# Altium footprint library SH1.0.PcbLib: 12 footprints
Each footprint in its own frame and in the unit in brackets; x right, y up, seen from the top. Pads: shape width x height; smd on the part's side, far side on the other; paste and mask are expansions set on the pad; w line width, h text height; cw(c..) or ccw(c..) is an arc to the next point about the centre after c.
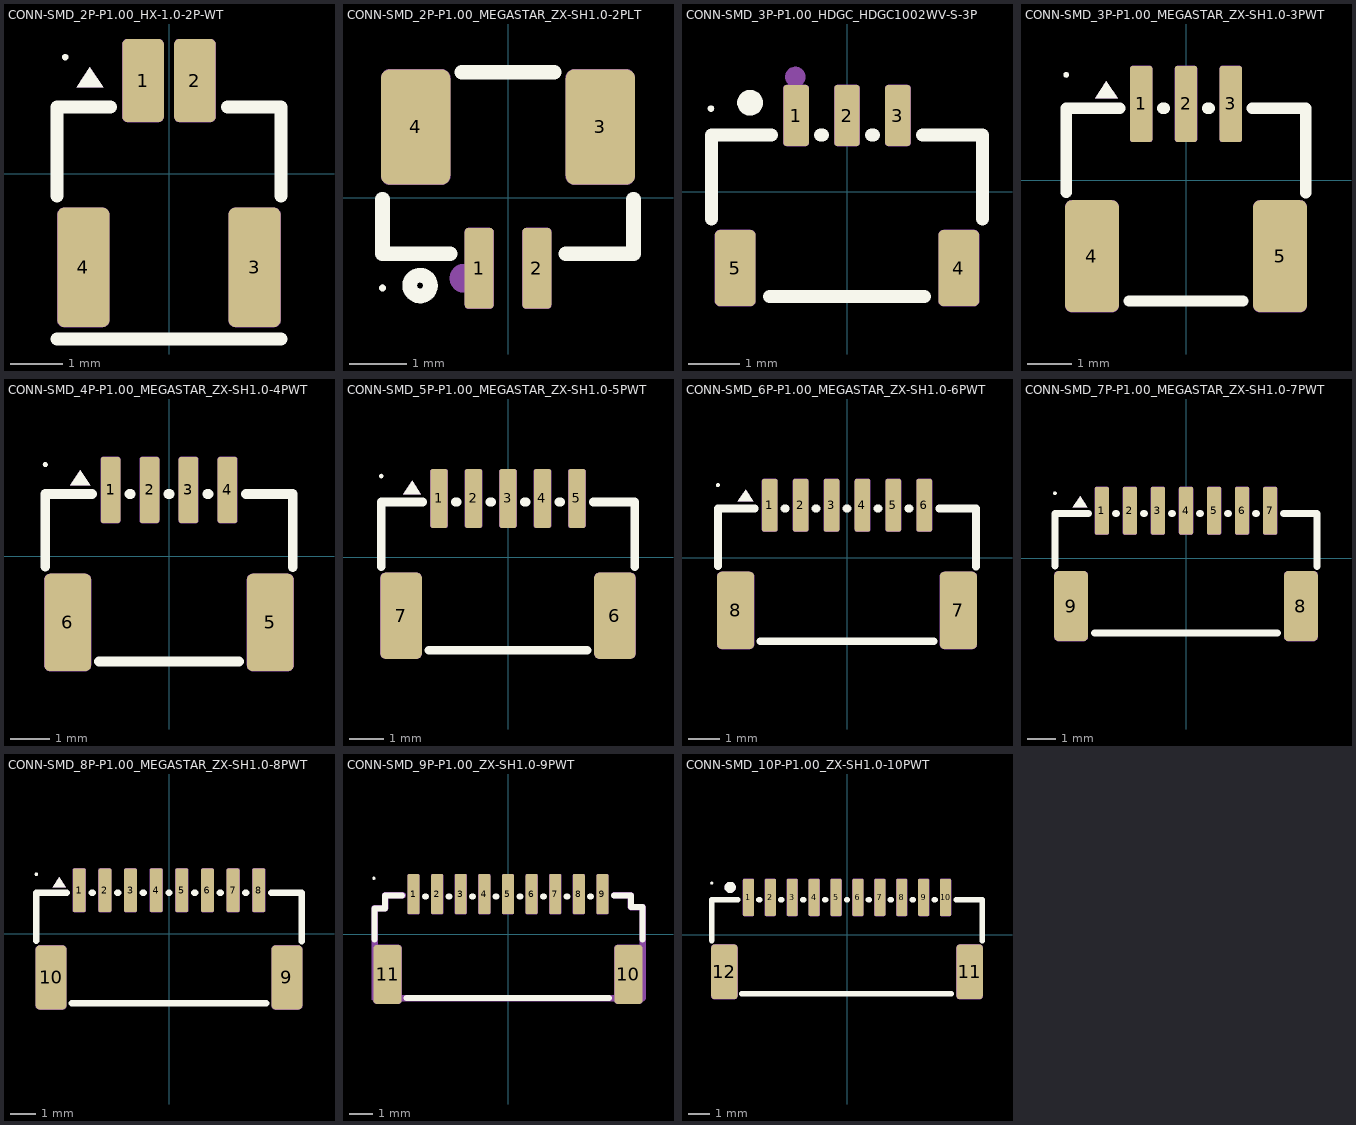
[diagram p0: the footprints below, top view; thin cyan lines are the x and y axes]

## CONN-SMD_2P-P1.00_HX-1.0-2P-WT [mm] "SMD,P=1mm; SMD,P=1mm,&#21351;&#36148;"
height -909.212
pads (4):
  rrect25% 0.8x1.6 smd mask+0.05: 1(-0.5,1.8) 2(0.5,1.8)
  rrect25% 1x2.3 smd mask+0.05: 3(1.65,-1.8) 4(-1.65,-1.8)
Top Overlay:
  region: -1.524,2.054 -1.778,1.673 -1.27,1.673
  region: -1.94,2.25 -1.941,2.262 -1.945,2.273 -1.95,2.283 -1.958,2.292 -1.967,2.3 -1.977,2.305 -1.988,2.309 -2,2.31 -2.012,2.309 -2.023,2.305 -2.033,2.3 -2.043,2.292 -2.05,2.283 -2.056,2.273 -2.059,2.262 -2.06,2.25 -2.059,2.238 -2.056,2.227 -2.05,2.217 -2.043,2.208 -2.033,2.2 -2.023,2.195 -2.012,2.191 -2,2.19 -1.988,2.191 -1.977,2.195 -1.967,2.2 -1.958,2.208 -1.95,2.217 -1.945,2.227 -1.941,2.238
  lines w0.254: -2.159,-3.181 2.159,-3.181 ; -2.159,-0.419 -2.159,1.292 -1.131,1.292 ; 1.131,1.292 2.159,1.292 2.159,-0.419
Mechanical 2:
  region: -1.524,2.054 -1.778,1.673 -1.27,1.673
Mechanical 9:
  drawing of 4 lines, arcs and shapes, not listed
3D body "CONN-SMD_2P-P1.00_HX-1.0-2P-WT.step": height 1, standoff 0, extent -2,-2.96 2,1.34

## CONN-SMD_2P-P1.00_MEGASTAR_ZX-SH1.0-2PLT [mm] "SMD,P=1mm"
height -909.212
pads (4):
  rrect25% 0.5x1.4 smd mask+0.05: 1(-0.5,-1.225) 2(0.5,-1.225)
  rrect25% 1.2x2 smd mask+0.05: 3(1.6,1.225) 4(-1.6,1.225)
Top Overlay:
  circle w0.254: c-1.524,-1.524 r0.18
  region: -2.115,-1.565 -2.116,-1.553 -2.12,-1.542 -2.125,-1.532 -2.133,-1.523 -2.142,-1.515 -2.152,-1.51 -2.163,-1.506 -2.175,-1.505 -2.187,-1.506 -2.198,-1.51 -2.208,-1.515 -2.217,-1.523 -2.225,-1.532 -2.23,-1.542 -2.234,-1.553 -2.235,-1.565 -2.234,-1.577 -2.23,-1.588 -2.225,-1.598 -2.217,-1.608 -2.208,-1.615 -2.198,-1.621 -2.187,-1.624 -2.175,-1.625 -2.163,-1.624 -2.152,-1.621 -2.142,-1.615 -2.133,-1.608 -2.125,-1.598 -2.12,-1.588 -2.116,-1.577
  lines w0.254: -2.175,-0.025 -2.175,-0.975 -1,-0.975 ; -0.8,2.175 0.8,2.175 ; 1,-0.975 2.175,-0.975 2.175,-0.025
Mechanical 2:
  circle w0.25: c-0.762,-1.397 r0.125
Mechanical 9:
  drawing of 4 lines, arcs and shapes, not listed
3D body "CONN-SMD_2P-P1.00_MEGASTAR_ZX-SH1.0-2PLT.step": height 1, standoff 0, extent -2.175,-0.875 2.175,2.175

## CONN-SMD_3P-P1.00_HDGC_HDGC1002WV-S-3P [mm] "SMD,P=1mm"
height -909.212
pads (5):
  rrect25% 0.5x1.2 smd mask+0.05: 1(-1,1.5) 2(0,1.5) 3(1,1.5)
  rrect25% 0.8x1.5 smd mask+0.05: 4(2.2,-1.5) 5(-2.2,-1.5)
Top Overlay:
  circle w0.254: c-1.905,1.751 r0.127
  region: -2.615,1.636 -2.616,1.648 -2.619,1.659 -2.625,1.669 -2.632,1.678 -2.642,1.686 -2.652,1.691 -2.663,1.695 -2.675,1.696 -2.687,1.695 -2.698,1.691 -2.708,1.686 -2.717,1.678 -2.725,1.669 -2.73,1.659 -2.734,1.648 -2.735,1.636 -2.734,1.624 -2.73,1.613 -2.725,1.603 -2.717,1.594 -2.708,1.586 -2.698,1.581 -2.687,1.577 -2.675,1.576 -2.663,1.577 -2.652,1.581 -2.642,1.586 -2.632,1.594 -2.625,1.603 -2.619,1.613 -2.616,1.624
  lines w0.254: -2.667,-0.535 -2.667,1.116 -1.481,1.116 ; -1.524,-2.059 1.524,-2.059 ; -0.519,1.116 -0.481,1.116 ; 0.481,1.116 0.519,1.116 ; 1.481,1.116 2.667,1.116 2.667,-0.535
Mechanical 2:
  circle w0.2: c-1.016,2.259 r0.1
Mechanical 9:
  drawing of 5 lines, arcs and shapes, not listed
3D body "CONN-SMD_3P-P1.00_HDGC_HDGC1002WV-S-3P.step": height 1, standoff 0, extent -2.675,-2.064 2.675,1.136

## CONN-SMD_3P-P1.00_MEGASTAR_ZX-SH1.0-3PWT [mm] "SMD,P=1mm"
height -909.212
pads (5):
  rrect25% 0.5x1.7 smd mask+0.05: 1(-1,1.7) 2(0,1.7) 3(1,1.7)
  rrect25% 1.2x2.5 smd mask+0.05: 4(-2.1,-1.7) 5(2.1,-1.7)
Top Overlay:
  region: -2.615,2.35 -2.616,2.362 -2.62,2.373 -2.625,2.383 -2.633,2.392 -2.642,2.4 -2.652,2.405 -2.663,2.409 -2.675,2.41 -2.687,2.409 -2.698,2.405 -2.708,2.4 -2.717,2.392 -2.725,2.383 -2.73,2.373 -2.734,2.362 -2.735,2.35 -2.734,2.338 -2.73,2.327 -2.725,2.317 -2.717,2.308 -2.708,2.3 -2.698,2.295 -2.687,2.291 -2.675,2.29 -2.663,2.291 -2.652,2.295 -2.642,2.3 -2.633,2.308 -2.625,2.317 -2.62,2.327 -2.616,2.338
  region: -1.778,2.208 -2.032,1.827 -1.524,1.827
  lines w0.254: -2.675,-0.269 -2.675,1.6 -1.481,1.6 ; -1.269,-2.7 1.269,-2.7 ; -0.519,1.6 -0.481,1.6 ; 0.481,1.6 0.519,1.6 ; 1.481,1.6 2.675,1.6 ; 2.675,-0.282 2.675,1.573
Mechanical 2:
  region: -1.778,2.208 -2.032,1.827 -1.524,1.827
Mechanical 9:
  drawing of 5 lines, arcs and shapes, not listed
3D body "CONN-SMD_3P-P1.00_MEGASTAR_ZX-SH1.0-3PWT.step": height 1, standoff 0, extent -2.675,-2.7 2.675,1.6

## CONN-SMD_4P-P1.00_MEGASTAR_ZX-SH1.0-4PWT [mm] "SMD,P=1mm"
height -909.212
pads (6):
  rrect25% 0.5x1.7 smd mask+0.05: 1(-1.5,1.7) 2(-0.5,1.7) 3(0.5,1.7) 4(1.5,1.7)
  rrect25% 1.2x2.5 smd mask+0.05: 5(2.6,-1.7) 6(-2.6,-1.7)
Top Overlay:
  region: -2.278,2.208 -2.532,1.827 -2.024,1.827
  region: -3.115,2.35 -3.116,2.362 -3.119,2.373 -3.125,2.383 -3.133,2.392 -3.142,2.4 -3.152,2.405 -3.163,2.409 -3.175,2.41 -3.187,2.409 -3.198,2.405 -3.208,2.4 -3.217,2.392 -3.225,2.383 -3.23,2.373 -3.234,2.362 -3.235,2.35 -3.234,2.338 -3.23,2.327 -3.225,2.317 -3.217,2.308 -3.208,2.3 -3.198,2.295 -3.187,2.291 -3.175,2.29 -3.163,2.291 -3.152,2.295 -3.142,2.3 -3.133,2.308 -3.125,2.317 -3.119,2.327 -3.116,2.338
  lines w0.254: -3.175,-0.269 -3.175,1.6 -1.981,1.6 ; -1.8,-2.7 1.8,-2.7 ; -1.019,1.6 -0.981,1.6 ; -0.019,1.6 0.019,1.6 ; 0.981,1.6 1.019,1.6 ; 1.981,1.6 3.175,1.6 ; 3.175,-0.282 3.175,1.573
Mechanical 2:
  region: -2.278,2.208 -2.532,1.827 -2.024,1.827
Mechanical 9:
  drawing of 6 lines, arcs and shapes, not listed
3D body "CONN-SMD_4P-P1.00_MEGASTAR_ZX-SH1.0-4PWT.step": height 1, standoff 0, extent -3.175,-2.7 3.175,1.6

## CONN-SMD_5P-P1.00_MEGASTAR_ZX-SH1.0-5PWT [mm] "SMD,P=1mm"
height -909.212
pads (7):
  rrect25% 0.5x1.7 smd mask+0.05: 1(-2,1.7) 2(-1,1.7) 3(0,1.7) 4(1,1.7) 5(2,1.7)
  rrect25% 1.2x2.5 smd mask+0.05: 6(3.1,-1.7) 7(-3.1,-1.7)
Top Overlay:
  region: -2.778,2.208 -3.032,1.827 -2.524,1.827
  region: -3.615,2.35 -3.616,2.362 -3.62,2.373 -3.625,2.383 -3.633,2.392 -3.642,2.4 -3.652,2.405 -3.663,2.409 -3.675,2.41 -3.687,2.409 -3.698,2.405 -3.708,2.4 -3.717,2.392 -3.725,2.383 -3.73,2.373 -3.734,2.362 -3.735,2.35 -3.734,2.338 -3.73,2.327 -3.725,2.317 -3.717,2.308 -3.708,2.3 -3.698,2.295 -3.687,2.291 -3.675,2.29 -3.663,2.291 -3.652,2.295 -3.642,2.3 -3.633,2.308 -3.625,2.317 -3.62,2.327 -3.616,2.338
  lines w0.254: -3.675,-0.269 -3.675,1.6 -2.481,1.6 ; -2.3,-2.7 2.3,-2.7 ; -1.519,1.6 -1.481,1.6 ; -0.519,1.6 -0.481,1.6 ; 0.481,1.6 0.519,1.6 ; 1.481,1.6 1.519,1.6 ; 2.481,1.6 3.675,1.6 ; 3.675,-0.282 3.675,1.573
Mechanical 2:
  region: -2.778,2.208 -3.032,1.827 -2.524,1.827
Mechanical 9:
  drawing of 7 lines, arcs and shapes, not listed
3D body "CONN-SMD_5P-P1.00_MEGASTAR_ZX-SH1.0-5PWT.step": height 1, standoff 0, extent -3.675,-2.7 3.675,1.6

## CONN-SMD_6P-P1.00_MEGASTAR_ZX-SH1.0-6PWT [mm] "SMD,P=1mm"
height -909.212
pads (8):
  rrect25% 0.5x1.7 smd mask+0.05: 1(-2.5,1.7) 2(-1.5,1.7) 3(-0.5,1.7) 4(0.5,1.7) 5(1.5,1.7) 6(2.5,1.7)
  rrect25% 1.2x2.5 smd mask+0.05: 7(3.6,-1.7) 8(-3.6,-1.7)
Top Overlay:
  region: -3.278,2.208 -3.532,1.827 -3.024,1.827
  region: -4.115,2.35 -4.116,2.362 -4.119,2.373 -4.125,2.383 -4.132,2.392 -4.142,2.4 -4.152,2.405 -4.163,2.409 -4.175,2.41 -4.187,2.409 -4.198,2.405 -4.208,2.4 -4.217,2.392 -4.225,2.383 -4.23,2.373 -4.234,2.362 -4.235,2.35 -4.234,2.338 -4.23,2.327 -4.225,2.317 -4.217,2.308 -4.208,2.3 -4.198,2.295 -4.187,2.291 -4.175,2.29 -4.163,2.291 -4.152,2.295 -4.142,2.3 -4.132,2.308 -4.125,2.317 -4.119,2.327 -4.116,2.338
  lines w0.254: -4.175,-0.269 -4.175,1.6 -2.981,1.6 ; -2.8,-2.7 2.8,-2.7 ; -2.019,1.6 -1.981,1.6 ; -1.019,1.6 -0.981,1.6 ; -0.019,1.6 0.019,1.6 ; 0.981,1.6 1.019,1.6 ; 1.981,1.6 2.019,1.6 ; 2.981,1.6 4.175,1.6 ; 4.175,-0.282 4.175,1.573
Mechanical 2:
  region: -3.278,2.208 -3.532,1.827 -3.024,1.827
Mechanical 9:
  drawing of 8 lines, arcs and shapes, not listed
3D body "CONN-SMD_6P-P1.00_MEGASTAR_ZX-SH1.0-6PWT.step": height 1, standoff 0, extent -4.175,-2.7 4.175,1.6

## CONN-SMD_7P-P1.00_MEGASTAR_ZX-SH1.0-7PWT [mm] "CONN-SMD_7P-P1.00_MEGASTAR_ZX-SH1.0-7PWT"
height -909.212
pads (9):
  rrect25% 0.5x1.7 smd mask+0.05: 1(-3,1.7) 2(-2,1.7) 3(-1,1.7) 4(0,1.7) 5(1,1.7) 6(2,1.7) 7(3,1.7)
  rrect25% 1.2x2.5 smd mask+0.05: 8(4.1,-1.7) 9(-4.1,-1.7)
Top Overlay:
  region: -4.615,2.325 -4.616,2.337 -4.62,2.348 -4.625,2.358 -4.633,2.368 -4.642,2.375 -4.652,2.381 -4.663,2.384 -4.675,2.385 -4.687,2.384 -4.698,2.381 -4.708,2.375 -4.718,2.368 -4.725,2.358 -4.731,2.348 -4.734,2.337 -4.735,2.325 -4.734,2.313 -4.731,2.302 -4.725,2.292 -4.718,2.283 -4.708,2.275 -4.698,2.27 -4.687,2.266 -4.675,2.265 -4.663,2.266 -4.652,2.27 -4.642,2.275 -4.633,2.283 -4.625,2.292 -4.62,2.302 -4.616,2.313
  region: -3.778,2.208 -4.032,1.827 -3.524,1.827
  lines w0.254: -4.675,-0.269 -4.675,1.6 -3.481,1.6 ; -3.269,-2.667 3.269,-2.667 ; -2.519,1.6 -2.481,1.6 ; -1.519,1.6 -1.481,1.6 ; -0.519,1.6 -0.481,1.6 ; 0.481,1.6 0.519,1.6 ; 1.481,1.6 1.519,1.6 ; 2.481,1.6 2.519,1.6 ; 3.481,1.6 4.675,1.6 ; 4.675,-0.281 4.675,1.573
Mechanical 2:
  region: -3.778,2.208 -4.032,1.827 -3.524,1.827
Mechanical 9:
  drawing of 9 lines, arcs and shapes, not listed
3D body "CONN-SMD_7P-P1.00_MEGASTAR_ZX-SH1.0-7PWT.step": height 1, standoff 0, extent -4.675,-2.7 4.675,1.6

## CONN-SMD_8P-P1.00_MEGASTAR_ZX-SH1.0-8PWT [mm] "SMD,P=1mm"
height -909.212
pads (10):
  rrect25% 0.5x1.7 smd mask+0.05: 1(-3.5,1.7) 2(-2.5,1.7) 3(-1.5,1.7) 4(-0.5,1.7) 5(0.5,1.7) 6(1.5,1.7) 7(2.5,1.7) 8(3.5,1.7)
  rrect25% 1.2x2.5 smd mask+0.05: 9(4.6,-1.7) 10(-4.6,-1.7)
Top Overlay:
  region: -4.278,2.208 -4.532,1.827 -4.024,1.827
  region: -5.115,2.325 -5.116,2.337 -5.12,2.348 -5.125,2.358 -5.133,2.367 -5.142,2.375 -5.152,2.38 -5.163,2.384 -5.175,2.385 -5.187,2.384 -5.198,2.38 -5.208,2.375 -5.217,2.367 -5.225,2.358 -5.23,2.348 -5.234,2.337 -5.235,2.325 -5.234,2.313 -5.23,2.302 -5.225,2.292 -5.217,2.283 -5.208,2.275 -5.198,2.27 -5.187,2.266 -5.175,2.265 -5.163,2.266 -5.152,2.27 -5.142,2.275 -5.133,2.283 -5.125,2.292 -5.12,2.302 -5.116,2.313
  lines w0.254: -5.175,-0.269 -5.175,1.6 -3.981,1.6 ; -3.8,-2.7 3.8,-2.7 ; -3.019,1.6 -2.981,1.6 ; -2.019,1.6 -1.981,1.6 ; -1.019,1.6 -0.981,1.6 ; -0.019,1.6 0.019,1.6 ; 0.981,1.6 1.019,1.6 ; 1.981,1.6 2.019,1.6 ; 2.981,1.6 3.019,1.6 ; 3.981,1.6 5.175,1.6 ; 5.175,-0.281 5.175,1.573
Mechanical 2:
  region: -4.278,2.208 -4.532,1.827 -4.024,1.827
Mechanical 9:
  drawing of 10 lines, arcs and shapes, not listed
3D body "CONN-SMD_8P-P1.00_MEGASTAR_ZX-SH1.0-8PWT.step": height 1, standoff 0, extent -5.175,-2.7 5.175,1.6

## CONN-SMD_9P-P1.00_ZX-SH1.0-9PWT [mm] "SMD,P=1mm,&#21351;&#36148;"
height -909.212
pads (11):
  rrect25% 0.5x1.7 smd mask+0.05: 1(-4,1.7) 2(-3,1.7) 3(-2,1.7) 4(-1,1.7) 5(0,1.7) 6(1,1.7) 7(2,1.7) 8(3,1.7) 9(4,1.7)
  rrect25% 1.2x2.5 smd mask+0.05: 10(5.1,-1.7) 11(-5.1,-1.7)
Top Overlay:
  region: -5.615,2.37 -5.616,2.382 -5.62,2.393 -5.625,2.403 -5.633,2.412 -5.642,2.42 -5.652,2.425 -5.663,2.429 -5.675,2.43 -5.687,2.429 -5.698,2.425 -5.708,2.42 -5.717,2.412 -5.725,2.403 -5.73,2.393 -5.734,2.382 -5.735,2.37 -5.734,2.358 -5.73,2.347 -5.725,2.337 -5.717,2.328 -5.708,2.32 -5.698,2.315 -5.687,2.311 -5.675,2.31 -5.663,2.311 -5.652,2.315 -5.642,2.32 -5.633,2.328 -5.625,2.337 -5.62,2.347 -5.616,2.358
  lines w0.254: -5.65,-0.219 -5.65,1.1 -5.2,1.1 -5.2,1.65 -4.481,1.65 ; -4.3,-2.7 3.3,-2.7 4.269,-2.7 ; -3.519,1.6 -3.481,1.6 ; -2.519,1.6 -2.481,1.6 ; -1.519,1.6 -1.481,1.6 ; -0.519,1.6 -0.481,1.6 ; 0.481,1.6 0.519,1.6 ; 1.481,1.6 1.519,1.6 ; 2.481,1.6 2.519,1.6 ; 3.481,1.6 3.519,1.6 ; 4.481,1.65 5.2,1.65 5.2,1.15 5.7,1.15 5.7,-0.219
Mechanical 2:
  region: -4.45,1.523 -5.073,1.523 -5.073,1.1 -5.075,1.078 -5.081,1.057 -5.09,1.036 -5.103,1.018 -5.118,1.003 -5.136,0.99 -5.157,0.981 -5.178,0.975 -5.2,0.973 -5.523,0.973 -5.523,-2.573 5.573,-2.573 5.573,1.023 5.2,1.023 5.178,1.025 5.157,1.031 5.136,1.04 5.118,1.053 5.103,1.068 5.09,1.086 5.081,1.107 5.075,1.128 5.073,1.15 5.073,1.523 4.5,1.523 4.478,1.525 4.457,1.531 4.436,1.54 4.418,1.553 4.403,1.568 4.39,1.587 4.381,1.607 4.375,1.628 4.373,1.65 4.375,1.672 4.381,1.693 4.39,1.714 4.403,1.732 4.418,1.747 4.436,1.76 4.457,1.769 4.478,1.775 4.5,1.777 5.2,1.777 5.222,1.775 5.243,1.769 5.263,1.76 5.282,1.747 5.297,1.732 5.31,1.714 5.319,1.693 5.325,1.672 5.327,1.65 5.327,1.277 5.7,1.277 5.722,1.275 5.743,1.269 5.763,1.26 5.782,1.247 5.797,1.232 5.81,1.213 5.819,1.193 5.825,1.172 5.827,1.15 5.827,-2.7 5.825,-2.722 5.819,-2.743 5.81,-2.763 5.797,-2.782 5.782,-2.797 5.763,-2.81 5.743,-2.819 5.722,-2.825 5.7,-2.827 -5.65,-2.827 -5.672,-2.825 -5.693,-2.819 -5.713,-2.81 -5.732,-2.797 -5.747,-2.782 -5.76,-2.763 -5.769,-2.743 -5.775,-2.722 -5.777,-2.7 -5.777,1.1 -5.775,1.122 -5.769,1.143 -5.76,1.163 -5.747,1.182 -5.732,1.197 -5.713,1.21 -5.693,1.219 -5.672,1.225 -5.65,1.227 -5.327,1.227 -5.327,1.65 -5.325,1.672 -5.319,1.693 -5.31,1.714 -5.297,1.732 -5.282,1.747 -5.263,1.76 -5.243,1.769 -5.222,1.775 -5.2,1.777 -4.45,1.777 -4.428,1.775 -4.407,1.769 -4.386,1.76 -4.368,1.747 -4.353,1.732 -4.34,1.714 -4.331,1.693 -4.325,1.672 -4.323,1.65 -4.325,1.628 -4.331,1.607 -4.34,1.587 -4.353,1.568 -4.368,1.553 -4.386,1.54 -4.407,1.531 -4.428,1.525
Mechanical 9:
  drawing of 11 lines, arcs and shapes, not listed
3D body "CONN-SMD_9P-P1.00_ZX-SH1.0-9PWT.step": height 1, standoff 0, extent -5.675,-2.679 5.675,1.621

## CONN-SMD_10P-P1.00_ZX-SH1.0-10PWT [mm] "SMD,P=1mm,&#21351;&#36148;"
height -909.212
pads (12):
  rrect25% 0.5x1.7 smd mask+0.05: 1(-4.5,1.7) 2(-3.5,1.7) 3(-2.5,1.7) 4(-1.5,1.7) 5(-0.5,1.7) 6(0.5,1.7) 7(1.5,1.7) 8(2.5,1.7) 9(3.5,1.7) 10(4.5,1.7)
  rrect25% 1.2x2.5 smd mask+0.05: 11(5.6,-1.7) 12(-5.6,-1.7)
Top Overlay:
  circle w0.254: c-5.334,2.159 r0.127
  region: -6.115,2.35 -6.116,2.362 -6.12,2.373 -6.125,2.383 -6.133,2.393 -6.142,2.4 -6.152,2.406 -6.163,2.409 -6.175,2.41 -6.187,2.409 -6.198,2.406 -6.208,2.4 -6.217,2.393 -6.225,2.383 -6.23,2.373 -6.234,2.362 -6.235,2.35 -6.234,2.338 -6.23,2.327 -6.225,2.317 -6.217,2.308 -6.208,2.3 -6.198,2.295 -6.187,2.291 -6.175,2.29 -6.163,2.291 -6.152,2.295 -6.142,2.3 -6.133,2.308 -6.125,2.317 -6.12,2.327 -6.116,2.338
  lines w0.254: -6.175,-0.269 -6.175,1.6 -4.981,1.6 ; -4.8,-2.7 2.8,-2.7 4.769,-2.7 ; -4.019,1.6 -3.981,1.6 ; -3.019,1.6 -2.981,1.6 ; -2.019,1.6 -1.981,1.6 ; -1.019,1.6 -0.981,1.6 ; -0.019,1.6 0.019,1.6 ; 0.981,1.6 1.019,1.6 ; 1.981,1.6 2.019,1.6 ; 2.981,1.6 3.019,1.6 ; 3.981,1.6 4.019,1.6 ; 4.981,1.6 6.175,1.6 ; 6.175,-0.281 6.175,1.573
Mechanical 2:
  circle w0.254: c-5.334,2.159 r0.127
Mechanical 9:
  drawing of 12 lines, arcs and shapes, not listed
3D body "CONN-SMD_10P-P1.00_ZX-SH1.0-10PWT.step": height 1, standoff 0, extent -6.175,-2.7 6.175,1.6

## PCBComponent_1 [mm]